# EAGLE library part MICS_SMD (library MiCS_socket)
MiCS
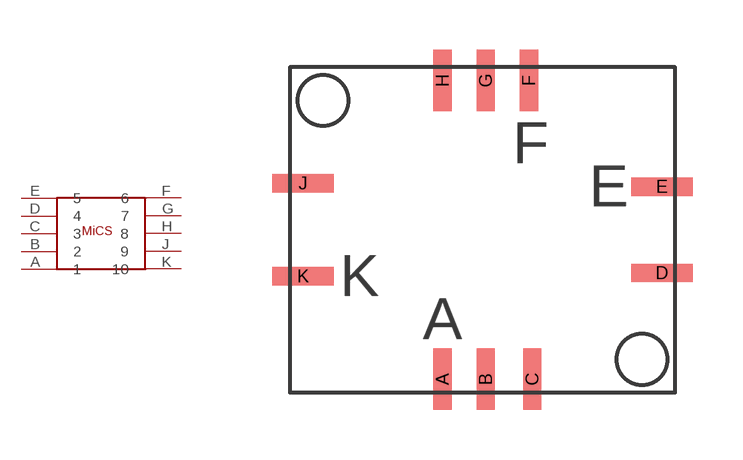
[diagram p0: symbol with the pads of MICS_SOCKET; footprint MICS_SOCKET]

Designator prefix -

## MICS_SMD  [MICS_SOCKET]
A  1
B  2
C  3
D  4
E  5
F  6
G  7
H  8
J  9
K  10

## Footprint MICS_SOCKET (pad centres in mm)
MiCS
smd 0.55 x 1.85: A 4.6,0.4; B 5.9,0.4; C 7.3,0.4; F 7.2,9.4; G 5.9,9.4; H 4.6,9.4
smd 1.85 x 0.55: D 11.2,3.6; E 11.2,6.2; J 0.4,6.3; K 0.4,3.5